# Altium schematic symbol library IC_MC_MCU_USB2514BM2.SchLib: 1 symbol
Pins are listed as number, name and electrical type; pins without a type are passive.

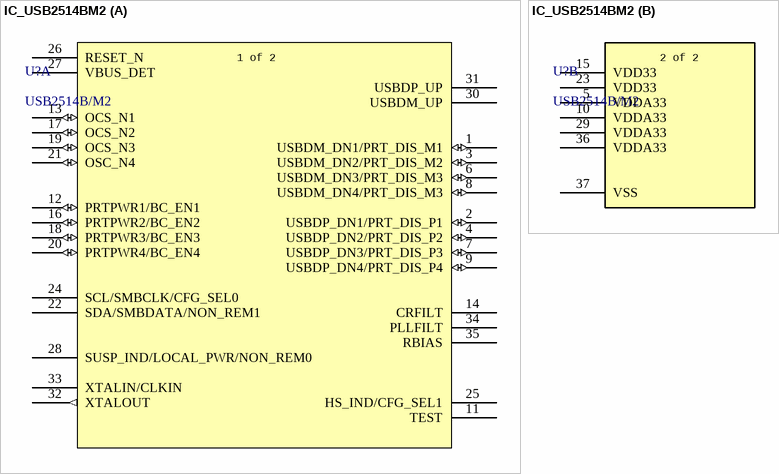
[diagram p0: symbol IC_USB2514BM2]

## IC_USB2514BM2
designator U?, comment USB2514B/M2
Description; Manufacturer_Name: Microchip; Copyright: Copyright (C) 2025 Ultra Librarian. All rights reserved.; Manufacturer_Part_Number: USB2514B/M2; RefDes: RefDes; Type: Type
footprint MC_MCU_USB2514BM2 (IC HUB CTLR 4PORT USB 2.0 HS 36S)
part A pins: 1 USBDM_DN1/PRT_DIS_M1 (io), 2 USBDP_DN1/PRT_DIS_P1 (io), 3 USBDM_DN2/PRT_DIS_M2 (io), 4 USBDP_DN2/PRT_DIS_P2 (io), 6 USBDM_DN3/PRT_DIS_M3 (io), 7 USBDP_DN3/PRT_DIS_P3 (io), 8 USBDM_DN4/PRT_DIS_M3 (io), 9 USBDP_DN4/PRT_DIS_P4 (io), 11 TEST, 12 PRTPWR1/BC_EN1 (io), 13 OCS_N1 (io), 14 CRFILT, 16 PRTPWR2/BC_EN2 (io), 17 OCS_N2 (io), 18 PRTPWR3/BC_EN3 (io), 19 OCS_N3 (io), 20 PRTPWR4/BC_EN4 (io), 21 OSC_N4 (io), 22 SDA/SMBDATA/NON_REM1, 24 SCL/SMBCLK/CFG_SEL0, 25 HS_IND/CFG_SEL1, 26 RESET_N, 27 VBUS_DET, 28 SUSP_IND/LOCAL_PWR/NON_REM0, 30 USBDM_UP, 31 USBDP_UP, 32 XTALOUT (out), 33 XTALIN/CLKIN, 34 PLLFILT, 35 RBIAS
part B pins: 5 VDDA33 (power), 10 VDDA33 (power), 15 VDD33 (power), 23 VDD33 (power), 29 VDDA33 (power), 36 VDDA33 (power), 37 VSS (power)
part A text: 1 of 2
part B text: 2 of 2